# Altium footprint library USB.PcbLib: 18 footprints (part 1 of 2)
Each footprint in its own frame and in the unit in brackets; x right, y up, seen from the top. Pads: shape width x height; smd on the part's side, far side on the other; paste and mask are expansions set on the pad; w line width, h text height; cw(c..) or ccw(c..) is an arc to the next point about the centre after c.
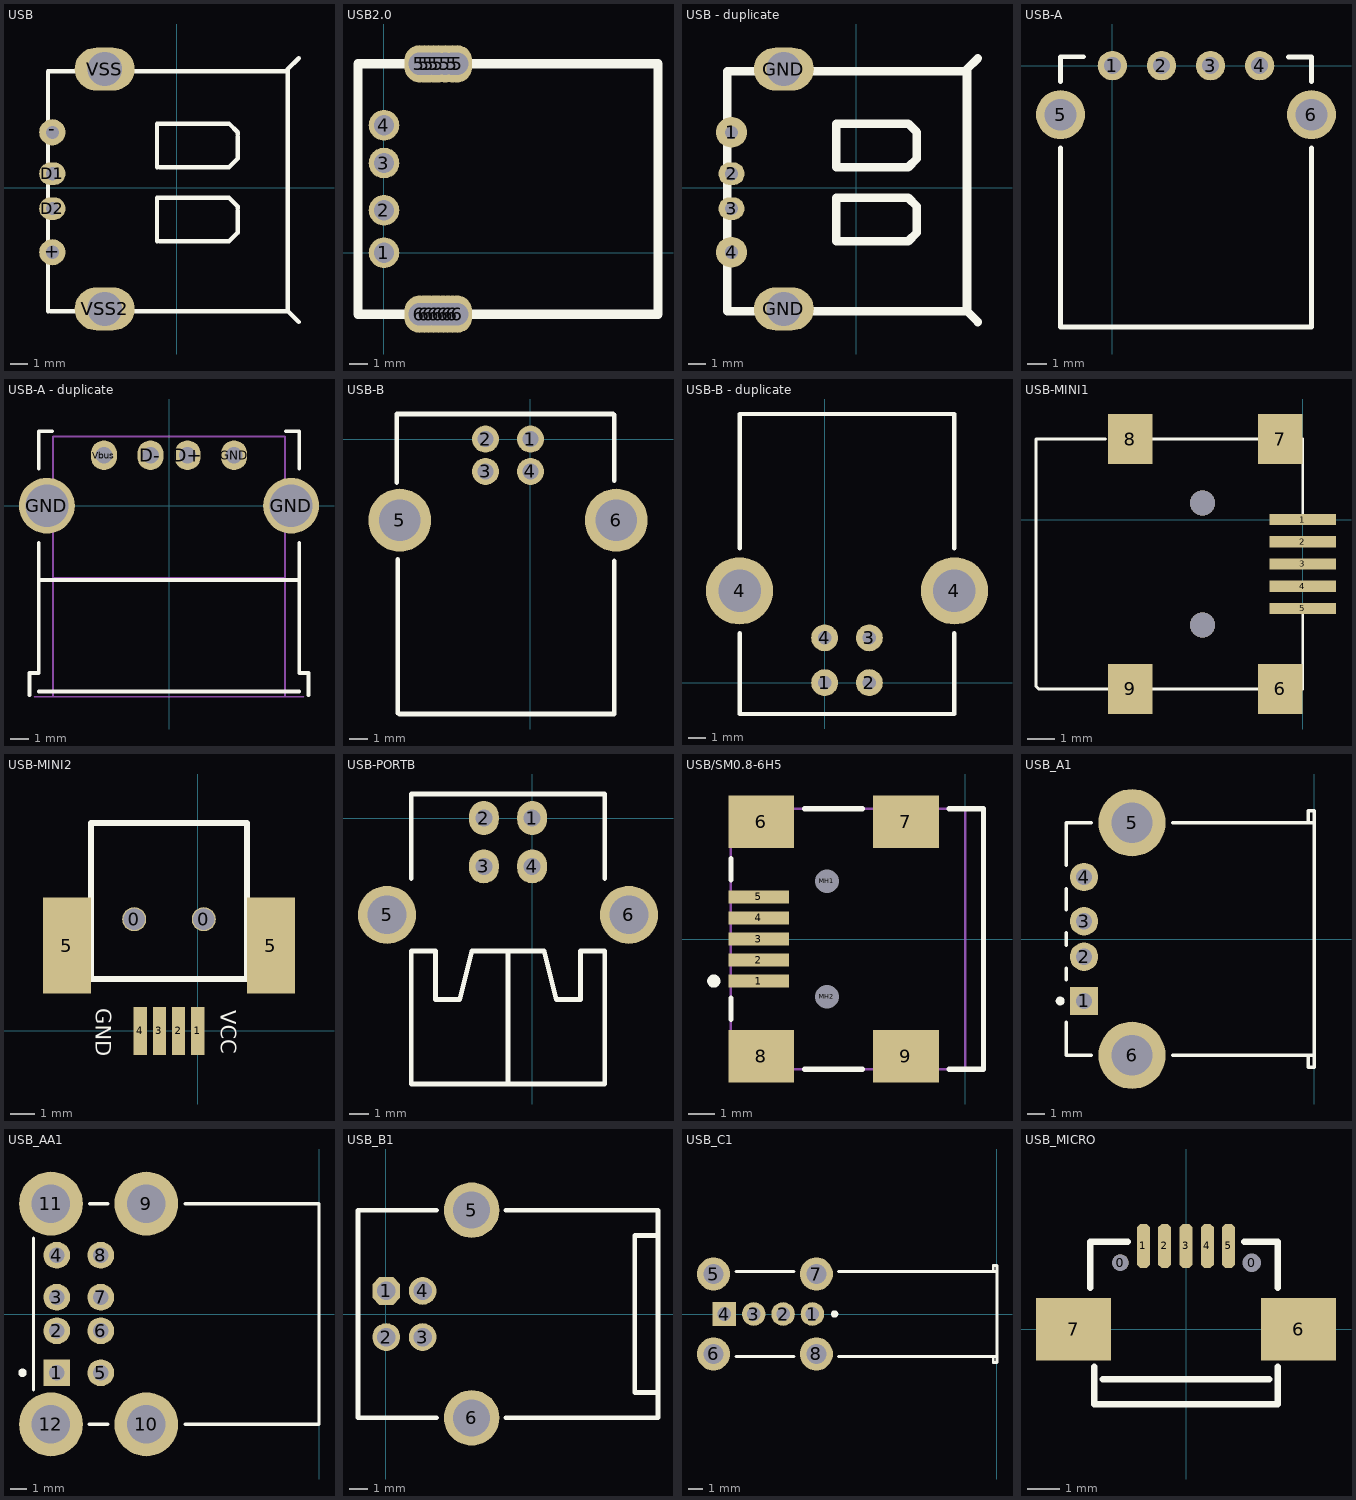
[diagram p0: the footprints below, top view; thin cyan lines are the x and y axes]

## USB [mm]
pads (6):
  round 1.524 hole 0.762: +(-7.255,-3.757) -(-7.255,3.228)
  oval 1.524x1.324 hole 0.762: D1(-7.255,0.815) D2(-7.255,-1.217)
  oval 3.5x2.5 hole 2: VSS(-4.207,6.911) VSS2(-4.207,-7.059)
Top Overlay:
  lines w0.254: -7.509,-7.186 -7.509,6.784 6.461,6.784 ; -7.382,-7.186 6.461,-7.186 ; -1.159,-3.122 -1.159,-0.582 3.032,-0.582 3.54,-1.09 3.54,-1.217 ; -1.159,1.196 -1.159,3.736 3.032,3.736 3.54,3.228 3.54,3.101 ; -1.032,-3.122 3.032,-3.122 3.54,-2.614 3.54,-1.344 ; -1.032,1.196 3.032,1.196 3.54,1.704 3.54,2.974 ; 7.096,-7.821 6.461,-7.186 ; 7.096,7.546 6.461,6.911 6.461,6.784 ; 6.461,-7.186 6.461,6.784

## USB2.0 [mm]
pads (21):
  round 1.651 hole 1.1: 1(0,0) 2(0,2.286) 3(0,4.826) 4(0,6.858)
  oval 1.6x2 hole 1.2: 5(1.905,10.16) 5(2.159,10.16) 5(2.413,10.16) 5(2.667,10.16) 5(2.921,10.16) 5(3.302,10.16) 5(3.683,10.16) 5(3.937,10.16) 6(1.905,-3.302) 6(2.159,-3.302) 6(2.413,-3.302) 6(2.667,-3.302) 6(2.921,-3.302) 6(3.175,-3.302) 6(3.429,-3.302) 6(3.683,-3.302) 6(3.937,-3.302)
Top Overlay:
  lines w0.508: -1.397,-3.302 -1.397,10.16 14.732,10.16 14.732,-3.302 -1.397,-3.302

## USB - duplicate [mm]
pads (6):
  round 1.8 hole 0.762: 1(-7.255,3.228) 4(-7.255,-3.757)
  oval 1.524x1.324 hole 0.762: 2(-7.255,0.815) 3(-7.255,-1.217)
  oval 3.5x2.5 hole 2: GND(-4.207,-7.059) GND(-4.207,6.911)
Top Overlay:
  lines w0.5: -7.509,-7.186 -7.509,6.784 6.461,6.784 ; -7.382,-7.186 6.461,-7.186 ; -1.159,-3.122 -1.159,-0.582 3.032,-0.582 3.54,-1.09 3.54,-1.217 ; -1.159,1.196 -1.159,3.736 3.032,3.736 3.54,3.228 3.54,3.101 ; -1.032,-3.122 3.032,-3.122 3.54,-2.614 3.54,-1.344 ; -1.032,1.196 3.032,1.196 3.54,1.704 3.54,2.974 ; 7.096,-7.821 6.461,-7.186 ; 7.096,7.546 6.461,6.911 6.461,6.784 ; 6.461,-7.186 6.461,6.784

## USB-A [mil]
pads (6):
  round 60 hole 35: 1(0,0) 2(100,0) 3(200,0) 4(300,0)
  round 100 hole 65: 5(-105.91,-100) 6(405.91,-100)
Top Overlay:
  lines w10: -105.91,-168.09 -105.91,-533.07 405.91,-533.07 405.91,-168.09 ; -105.91,-32.09 -105.91,18.11 -59.11,18.11 ; 359,18 405.8,18 ; 405.8,-32.2 405.8,18 ; 405.91,18.11 405.8,18

## USB-A - duplicate [mm]
pads (6):
  oval 1.4x1.6 hole 0.9: D+(1,2.71) D-(-1,2.71) GND(3.5,2.71) Vbus(-3.5,2.71)
  round 3 hole 2.3: GND(-6.57,0) GND(6.57,0)
Top Overlay:
  lines w0.2: -7.5,-10.2 -7.5,-9 -7,-9 -7,-2 ; -7,-10 7,-10 ; -7,-4 7,-4 ; -7,2 -7,4 -6.3,4 ; 6.3,4 7,4 7,2 ; 7,-2 7,-9 7.5,-9 7.5,-10.2
Mechanical 1:
  lines w0.1: -7.25,-10.28 7.25,-10.28 ; -6.25,-10.28 -6.25,3.71 6.25,3.71 6.25,-10.28 ; -6.25,-3.88 6.25,-3.88

## USB-B [mm]
pads (6):
  round 1.5 hole 0.9: 1(0,0) 2(-2.5,0) 3(-2.5,-1.8) 4(0,-1.8)
  round 3.5 hole 2.3: 5(-7.27,-4.51) 6(4.77,-4.51)
Top Overlay:
  lines w0.254: -7.442,-2.413 -7.442,1.397 ; -7.391,-15.24 -7.391,-6.68 ; -7.391,1.397 4.597,1.397 ; -7.29,-15.291 4.648,-15.291 4.648,-6.782 ; 4.648,-2.311 4.648,1.346

## USB-B - duplicate [mil]
pads (6):
  round 60 hole 30: 1(0,0) 2(100,0) 3(100,100) 4(0,100)
  round 150 hole 95: 4(-190,205) 4(290,205)
Top Overlay:
  lines w10: -190,110 -190,-70 0,-70 290,-70 290,110 ; -190,300 -190,600 290,600 290,300

## USB-MINI1 [mm]
pads (9):
  rect 2.4x0.4 smd: 1(0,0) 2(0,-0.8) 3(0,-1.6) 4(0,-2.4) 5(0,-3.2)
  rect 1.6x1.8 smd: 6(-0.8,-6.1) 7(-0.8,2.9) 8(-6.2,2.9) 9(-6.2,-6.1)
via -3.6,0.6 diameter 0.9 hole 0.9
via -3.6,-3.8 diameter 0.9 hole 0.9
Top Overlay:
  lines w0.1: -7.1,2.9 -9.6,2.9 -9.6,-6 -9.5,-6.1 -7,-6.1 ; -5.4,-6.1 -1.6,-6.1 ; -5.4,2.9 -1.6,2.9 ; 0,-6.1 0,-3.4 ; 0,0.2 0,2.9

## USB-MINI2 [mm]
pads (8):
  round 1 hole 0.9: 0(-2.65,4.65) 0(0.25,4.65)
  rect 0.55x2 smd: 1(0,0) 2(-0.8,0) 3(-1.6,0) 4(-2.4,0)
  rect 2x4 smd: 5(-5.45,3.55) 5(3.05,3.55)
Top Overlay:
  lines w0.254: -4.45,2.15 2.05,2.15 2.05,8.65 -4.45,8.65 -4.45,2.15
  text "GND" at -4.25,0.95 h0.64
  text "VCC" at 0.95,0.85 h0.64

## USB-PORTB [mil]
pads (6):
  oval 62x70 hole 35: 1(-0.12,0.38) 2(-100.12,0.38) 3(-100.12,-99.62) 4(-0.12,-99.62)
  round 120 hole 80: 5(-300.12,-199.62) 6(199.88,-199.62)
Top Overlay:
  lines w10: -250.12,-124.62 -250.12,50.38 149.88,50.38 149.88,-124.62 ; -50.12,-549.62 -50.12,-274.62 ; -250.12,-549.62 -250.12,-274.62 -200.12,-274.62 -200.12,-374.62 -150.12,-374.62 -125.12,-274.62 24.88,-274.62 49.88,-374.62 99.88,-374.62 99.88,-274.62 149.88,-274.62 149.88,-549.62 -250.12,-549.62

## USB/SM0.8-6H5 [mm] "Connector; USB2.0, Type B, SM; 5 Position; Right Angle"
height 3.9
pads (11):
  rect 2.3x0.5 smd: 1(-7.85,-1.6) 2(-7.85,-0.8) 3(-7.85,0) 4(-7.85,0.8) 5(-7.85,1.6)
  rect 2.5x2 smd: 6(-7.75,4.45) 7(-2.25,4.45) 8(-7.75,-4.45) 9(-2.25,-4.45)
  round 0.6 hole 0.9 unplated: MH1(-5.25,2.2) MH2(-5.25,-2.2)
Top Overlay:
  circle w0.25: c-9.55,-1.6 r0.125
  lines w0.2: -8.9,-3.05 -8.9,-2.25 ; -8.9,2.25 -8.9,3.05 ; -6.1,-4.95 -3.9,-4.95 ; -6.1,4.95 -3.9,4.95 ; -0.6,-4.95 0.7,-4.95 0.7,4.95 -0.6,4.95
Mechanical 1:
  lines w0.1: 0,-4.95 0,4.95
  text "PCB Edge" at 0.432,-4.036 h0.25
Mechanical 13:
  lines w0.1: -8.9,-4.95 -8.9,4.95 0.7,4.95 0.7,-4.95 -8.9,-4.95
3D body: height 3.9, standoff 0, extent -8.9,-4.95 0.7,4.95

## USB_A1 [mm]
height 7.01
pads (6):
  rect 1.6x1.6 hole 0.92: 1(-12.99,-3.5)
  round 1.6 hole 0.92: 2(-12.99,-1) 3(-12.99,1) 4(-12.99,3.5)
  round 3.8 hole 2.3: 5(-10.28,6.57) 6(-10.28,-6.57)
Top Overlay:
  circle w0.25: c-14.34,-3.5 r0.125
  lines w0.2: -14,-4.7 -14,-6.565 -12.58,-6.565 ; -14,-2.3 -14,-1.66 ; -14,-0.34 -14,0.34 ; -14,1.66 -14,2.84 ; -14,4.16 -14,6.565 -12.58,6.565 ; -7.98,-6.565 0,-6.565 ; -7.98,6.565 0,6.565 ; -0.32,-6.565 -0.32,-7.25 0,-7.25 0,-6.565 ; -0.32,6.565 -0.32,7.25 0,7.25 0,6.565 ; 0,-6.565 0,6.565
3D body: height 7.55, standoff -3.3, extent -14.16,-7.9 0,7.9

## USB_AA1 [mm] "USB母座A型"
height 15.51
pads (12):
  rect 1.6x1.6 hole 0.92: 1(-15.61,-3.5)
  round 1.6 hole 0.92: 2(-15.61,-1) 3(-15.61,1) 4(-15.61,3.5) 5(-12.99,-3.5) 6(-12.99,-1) 7(-12.99,1) 8(-12.99,3.5)
  round 3.8 hole 2.3: 9(-10.28,6.57) 10(-10.28,-6.57) 11(-15.96,6.57) 12(-15.96,-6.57)
Top Overlay:
  circle w0.25: c-17.65,-3.5 r0.125
  lines w0.2: -17,-4.51 -17,4.51 ; -13.68,-6.565 -12.58,-6.565 ; -13.66,6.565 -12.58,6.565 ; -7.97,-6.565 0,-6.565 0,6.565 -7.97,6.565

## USB_B1 [mil] "USB方孔"
height 314.96
pads (6):
  oct 60x60 hole 40: 1(1.26,50)
  round 60 hole 40: 2(1.26,-50) 3(80,-50) 4(80,50)
  round 120 hole 80: 5(186.3,225) 6(186.3,-225)
Top Overlay:
  lines w10: 110,-225 -60,-225 -60,225 110,225 ; 260,-225 590,-225 590,225 260,225 ; 590,-170 540,-170 540,170 590,170

## USB_C1 [mm] "侧卧USB"
height 13.83
pads (8):
  round 1.6 hole 0.92: 1(-12.56,0) 2(-14.56,0) 3(-16.56,0)
  rect 1.6x1.6 hole 0.92: 4(-18.56,0)
  round 2.25 hole 1.35: 5(-19.29,2.72) 6(-19.29,-2.72) 7(-12.29,2.72) 8(-12.29,-2.72)
Top Overlay:
  circle w0.25: c-11.047,0 r0.125
  lines w0.2: -17.773,-2.88 -13.807,-2.88 ; -17.773,2.88 -13.807,2.88 ; -10.773,-2.88 0,-2.88 ; -10.773,2.88 0,2.88 ; -0.254,-2.88 -0.254,-3.302 0,-3.302 0,-2.88 ; -0.254,2.88 -0.254,3.302 0,3.302 0,2.88 ; 0,-2.88 0,2.88

## USB_MICRO [mm] "USB方孔"
height 8
pads (9):
  round 0.5 hole 0.5: 0(-2,2.032)
  round 0.5 hole 0.56: 0(2,2.032)
  oct 0.4x1.35 smd: 1(-1.3,2.54) 2(-0.65,2.54) 3(0,2.54) 4(0.65,2.54) 5(1.3,2.54)
  rect 2.286x1.9 smd: 6(3.429,0) 7(-3.429,0)
Top Overlay:
  lines w0.2: -2.921,1.27 -2.921,2.667 -1.778,2.667 ; -2.794,-1.143 -2.794,-2.286 2.794,-2.286 2.794,-1.143 ; -2.54,-1.524 2.54,-1.524 ; 1.778,2.667 2.794,2.667 2.794,1.27